# Altium footprint library RESC4532X055.PcbLib: 3 footprints
Each footprint in its own frame and in the unit in brackets; x right, y up, seen from the top. Pads: shape width x height; smd on the part's side, far side on the other; paste and mask are expansions set on the pad; w line width, h text height; cw(c..) or ccw(c..) is an arc to the next point about the centre after c.
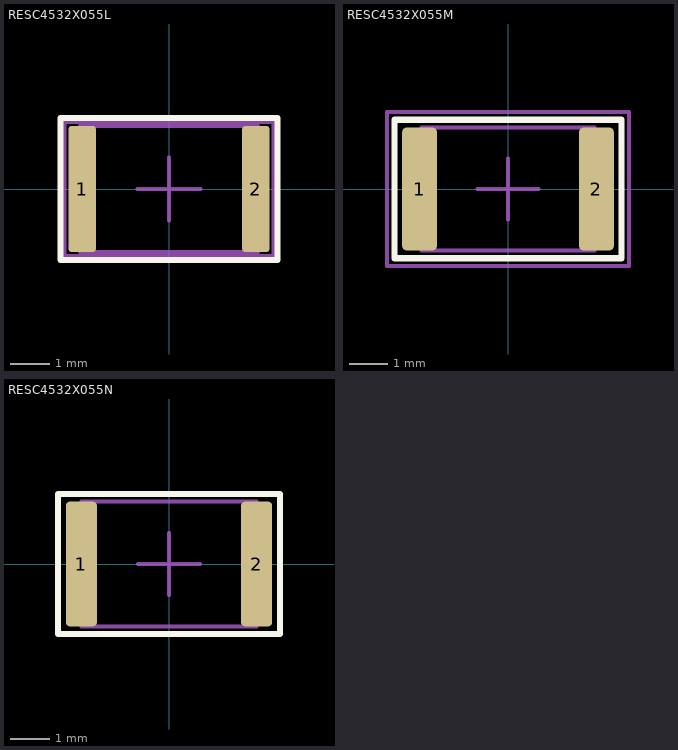
[diagram p0: the footprints below, top view; thin cyan lines are the x and y axes]

## RESC4532X055L [mm] "Resistors, Chip"
height 0.75
pads (2):
  rrect25% 0.7x3.2 smd: 1(-2.2,0) 2(2.2,0)
Top Overlay:
  lines w0.16: -2.75,-1.8 2.75,-1.8 2.75,1.8 -2.75,1.8 -2.75,-1.8
Top Component Center:
  lines w0.1: -0.8,0 0.8,0 ; 0,-0.8 0,0.8
Top Courtyard:
  lines w0.1: -2.65,-1.7 2.65,-1.7 2.65,1.7 -2.65,1.7 -2.65,-1.7
Top Assembly:
  lines w0.1: -2.25,-1.6 2.25,-1.6 2.25,1.6 -2.25,1.6 -2.25,-1.6
  text ".Designator" at 0,0 h1
3D body "RESC4532X055L.STEP": height 0.55, standoff 0, extent -2.25,-1.6 2.25,1.6

## RESC4532X055M [mm] "Resistors, Chip"
height 0.75
pads (2):
  rrect25% 0.9x3.2 smd: 1(-2.3,0) 2(2.3,0)
Top Overlay:
  lines w0.16: -2.95,-1.8 2.95,-1.8 2.95,1.8 -2.95,1.8 -2.95,-1.8
Top Component Center:
  lines w0.1: -0.8,0 0.8,0 ; 0,-0.8 0,0.8
Top Courtyard:
  lines w0.1: -3.15,-2 3.15,-2 3.15,2 -3.15,2 -3.15,-2
Top Assembly:
  lines w0.1: -2.25,-1.6 2.25,-1.6 2.25,1.6 -2.25,1.6 -2.25,-1.6
  text ".Designator" at 0,0 h1
3D body "RESC4532X055M.STEP": height 0.55, standoff 0, extent -2.25,-1.6 2.25,1.6

## RESC4532X055N [mm] "Resistors, Chip"
height 0.75
pads (2):
  rrect25% 0.8x3.2 smd: 1(-2.25,0) 2(2.25,0)
Top Overlay:
  lines w0.16: -2.85,-1.8 2.85,-1.8 2.85,1.8 -2.85,1.8 -2.85,-1.8
Top Component Center:
  lines w0.1: -0.8,0 0.8,0 ; 0,-0.8 0,0.8
Top Courtyard:
  lines w0.1: -2.85,-1.8 2.85,-1.8 2.85,1.8 -2.85,1.8 -2.85,-1.8
Top Assembly:
  lines w0.1: -2.25,-1.6 2.25,-1.6 2.25,1.6 -2.25,1.6 -2.25,-1.6
  text ".Designator" at 0,0 h1
3D body "RESC4532X055N.STEP": height 0.55, standoff 0, extent -2.25,-1.6 2.25,1.6